# EAGLE library part STM32L432KC (library micro-stm)
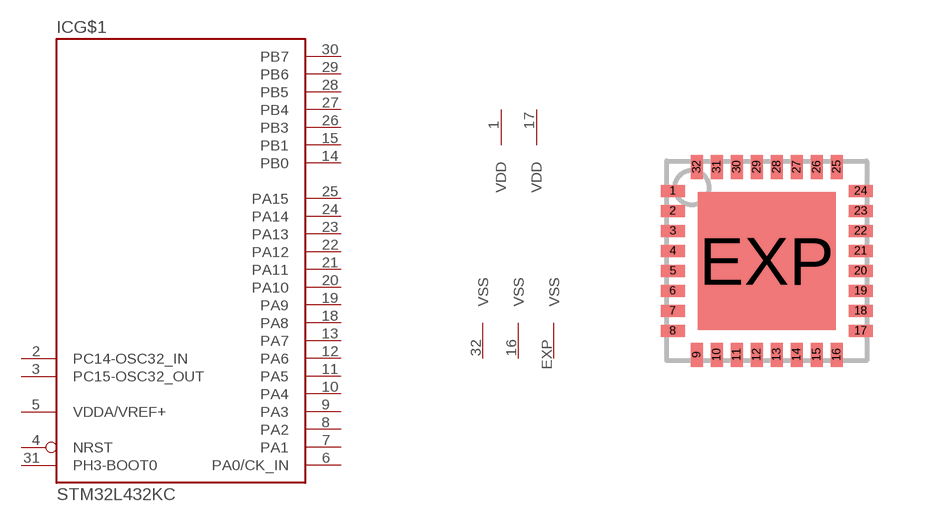
[diagram p181: symbol with the pads of UFQFPN32; footprint UFQFPN32]

Designator prefix IC; gates G$1=STM32_32PIN_TYP4 G$2=PWR_VDD2_VSS3

## STM32L432KC  [UFQFPN32]
1  G$2:VDD  pwr
2  G$1:PC14-OSC32_IN
3  G$1:PC15-OSC32_OUT
4  G$1:NRST
5  G$1:VDDA/VREF+  pwr
6  G$1:PA0/CK_IN
7  G$1:PA1
8  G$1:PA2
9  G$1:PA3
10  G$1:PA4
11  G$1:PA5
12  G$1:PA6
13  G$1:PA7
14  G$1:PB0
15  G$1:PB1
16  G$2:VSS  pwr
17  G$2:VDD  pwr
18  G$1:PA8
19  G$1:PA9
20  G$1:PA10
21  G$1:PA11
22  G$1:PA12
23  G$1:PA13
24  G$1:PA14
25  G$1:PA15
26  G$1:PB3
27  G$1:PB4
28  G$1:PB5
29  G$1:PB6
30  G$1:PB7
31  G$1:PH3-BOOT0  in
32  G$2:VSS  pwr
EXP  G$2:VSS  pwr

## Footprint UFQFPN32 (pad centres in mm)
UFQFPN32 5 x 5 mm, 32-pin ultra thin fine pitch quad flat no-lead package
smd 0.6 x 0.3: 1 -2.35,1.75; 2 -2.35,1.25; 3 -2.35,0.75; 4 -2.35,0.25; 5 -2.35,-0.25; 6 -2.35,-0.75; 7 -2.35,-1.25; 8 -2.35,-1.75; 17 2.35,-1.75; 18 2.35,-1.25; 19 2.35,-0.75; 20 2.35,-0.25; 21 2.35,0.25; 22 2.35,0.75; 23 2.35,1.25; 24 2.35,1.75
smd 0.3 x 0.6: 9 -1.75,-2.35; 10 -1.25,-2.35; 11 -0.75,-2.35; 12 -0.25,-2.35; 13 0.25,-2.35; 14 0.75,-2.35; 15 1.25,-2.35; 16 1.75,-2.35; 25 1.75,2.35; 26 1.25,2.35; 27 0.75,2.35; 28 0.25,2.35; 29 -0.25,2.35; 30 -0.75,2.35; 31 -1.25,2.35; 32 -1.75,2.35
smd 3.45 x 3.45: EXP 0,0